# Altium footprint library PcbLib1.PcbLib: 25 footprints (part 2 of 2)
Each footprint in its own frame and in the unit in brackets; x right, y up, seen from the top. Pads: shape width x height; smd on the part's side, far side on the other; paste and mask are expansions set on the pad; w line width, h text height; cw(c..) or ccw(c..) is an arc to the next point about the centre after c.
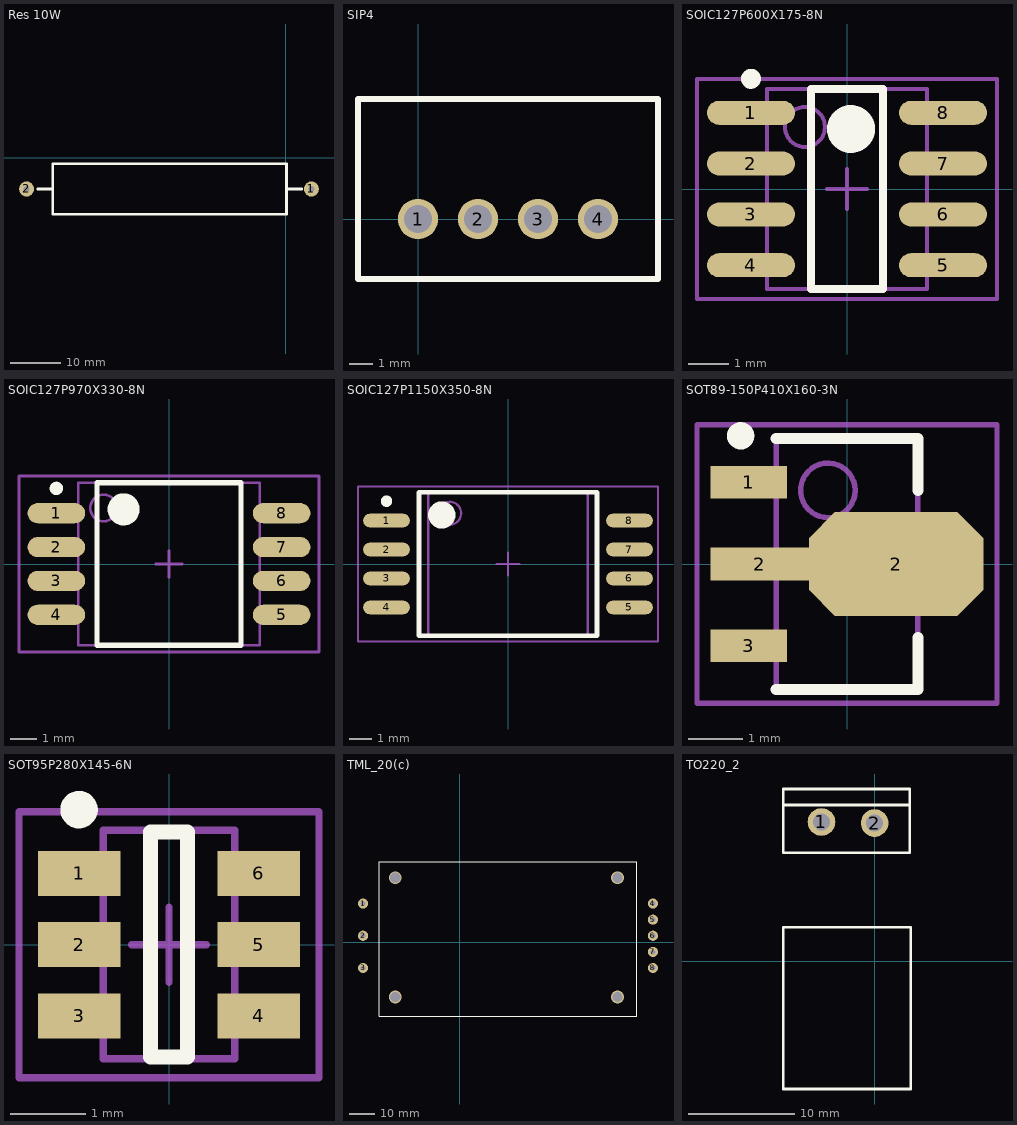
[diagram p1: the footprints below, top view; thin cyan lines are the x and y axes]

## Res 10W [mm]
pads (2):
  round 3 hole 1.2: 1(5.073,-6.15) 2(-51,-6.15)
Top Overlay:
  lines w0.5: -48.827,-6.15 -46.103,-6.15 ; 0.174,-6.15 3.173,-6.15 ; -45.827,-11.15 -45.827,-1.15 0.173,-1.15 0.173,-11.15 -45.827,-11.15

## SIP4 [mm]
height 10
pads (4):
  round 1.7 hole 1.2: 1(0,0) 2(2.54,0) 3(5.08,0) 4(7.62,0)
Top Overlay:
  lines w0.254: -2.54,-2.54 10.16,-2.54 10.16,5.08 -2.54,5.08 -2.54,-2.54

## SOIC127P600X175-8N [mm] "SOIC, 8-Leads, Body 5.0x4.0mm (max), Pitch 1.27mm, IPC Medium Density"
height 1.75
pads (8):
  oval 2.2x0.6 smd: 1(-2.4,1.905) 2(-2.4,0.635) 3(-2.4,-0.635) 4(-2.4,-1.905) 5(2.4,-1.905) 6(2.4,-0.635) 7(2.4,0.635) 8(2.4,1.905)
Top Overlay:
  circle w0.25: c-2.4,2.755 r0.125
  circle w0.6: c0.1,1.5 r0.3
  lines w0.2: -0.9,-2.5 -0.9,2.5 0.9,2.5 0.9,-2.5 -0.9,-2.5
Mechanical 13:
  circle w0.1: c-1.05,1.55 r0.5
  lines w0.1: -2,-2.5 -2,2.5 2,2.5 2,-2.5 -2,-2.5
Mechanical 15:
  lines w0.1: -0.5,0 0.5,0 ; 0,-0.5 0,0.5 ; -3.75,-2.75 -3.75,2.75 3.75,2.75 3.75,-2.75 -3.75,-2.75
3D body: height 1.75, standoff 0.1, extent -2,-2.5 2,2.5

## SOIC127P970X330-8N [mm] "SOIC, 8-Leads, Body 6.1x6.8mm (max), Pitch 1.27mm, IPC Medium Density"
height 3.3
pads (8):
  oval 2.16x0.76 smd: 1(-4.225,1.905) 2(-4.225,0.635) 3(-4.225,-0.635) 4(-4.225,-1.905) 5(4.225,-1.905) 6(4.225,-0.635) 7(4.225,0.635) 8(4.225,1.905)
Top Overlay:
  circle w0.6: c-1.7,2.05 r0.3
  circle w0.25: c-4.225,2.835 r0.125
  lines w0.2: -2.7,-3.05 2.7,-3.05 2.7,3.05 -2.7,3.05 -2.7,-3.05
Mechanical 13:
  circle w0.1: c-2.45,2.1 r0.5
  lines w0.1: -3.4,-3.05 3.4,-3.05 3.4,3.05 -3.4,3.05 -3.4,-3.05
Mechanical 15:
  lines w0.1: -0.5,0 0.5,0 ; 0,-0.5 0,0.5 ; -5.625,-3.3 5.625,-3.3 5.625,3.3 -5.625,3.3 -5.625,-3.3
3D body: height 3.3, standoff 0.3, extent -3.4,-3.05 3.4,3.05

## SOIC127P1150X350-8N [mm] "SOIC, 8-Leads, Body 6.3x7.0mm (max), Pitch 1.27mm, IPC Medium Density"
height 3.5
pads (8):
  oval 2.05x0.6 smd: 1(-5.325,1.905) 2(-5.325,0.635) 3(-5.325,-0.635) 4(-5.325,-1.905) 5(5.325,-1.905) 6(5.325,-0.635) 7(5.325,0.635) 8(5.325,1.905)
Top Overlay:
  circle w0.25: c-5.325,2.755 r0.125
  circle w0.6: c-2.9,2.15 r0.3
  lines w0.2: -3.9,-3.15 -3.9,3.15 3.9,3.15 3.9,-3.15 -3.9,-3.15
Mechanical 13:
  circle w0.1: c-2.55,2.225 r0.5
  lines w0.1: -3.5,-3.175 -3.5,3.175 3.5,3.175 3.5,-3.175 -3.5,-3.175
Mechanical 15:
  lines w0.1: -0.5,0 0.5,0 ; 0,-0.5 0,0.5 ; -6.575,-3.4 -6.575,3.4 6.575,3.4 6.575,-3.4 -6.575,-3.4
3D body: height 3.5, standoff 0.1, extent -3.5,-3.175 3.5,3.175

## SOT89-150P410X160-3N [mm] "SOT89, 3-Leads, Body 4.5x2.4mm (max), Pitch 1.50mm, Lead Span 4.1mm, IPC Medium Density"
height 1.6
pads (4):
  rect 1.4x0.6 smd: 1(-1.8,1.5) 3(-1.8,-1.5)
  rect 1.8x0.6 smd: 2(-1.6,0)
  oct 3.2x1.9 smd: 2(0.9,0)
Top Overlay:
  circle w0.25: c-1.95,2.35 r0.125
  lines w0.2: -1.3,-2.3 1.3,-2.3 1.3,-1.35 ; -1.3,2.3 1.3,2.3 1.3,1.35
Mechanical 13:
  circle w0.1: c-0.35,1.35 r0.5
  lines w0.1: -1.3,-2.3 1.3,-2.3 1.3,2.3 -1.3,2.3 -1.3,-2.3
Mechanical 15:
  lines w0.1: -0.5,0 0.5,0 ; 0,-0.5 0,0.5 ; -2.75,-2.55 2.75,-2.55 2.75,2.55 -2.75,2.55 -2.75,-2.55
3D body: height 1.6, standoff 0, extent -1.3,-2.3 1.3,2.3

## SOT95P280X145-6N [mm] "SOT23, 6-Leads, Body 3.0x3.0mm (max), Pitch 0.95mm, IPC Medium Density"
height 1.45
pads (6):
  rect 1.1x0.6 smd: 1(-1.2,0.95) 2(-1.2,0) 3(-1.2,-0.95) 4(1.2,-0.95) 5(1.2,0) 6(1.2,0.95)
Top Overlay:
  circle w0.25: c-1.2,1.8 r0.125
  lines w0.2: -0.25,-1.5 0.25,-1.5 0.25,1.5 -0.25,1.5 -0.25,-1.5
Mechanical 13:
  lines w0.1: -0.875,-1.525 -0.875,1.525 0.875,1.525 0.875,-1.525 -0.875,-1.525
Mechanical 15:
  lines w0.1: -0.5,0 0.5,0 ; 0,-0.5 0,0.5 ; -2,-1.775 -2,1.775 2,1.775 2,-1.775 -2,-1.775
3D body: height 1.45, standoff 0.05, extent -0.875,-1.525 0.875,1.525

## TML_20(c) [mm]
pads (8):
  round 4 hole 2: 1(-38.1,15.24) 2(-38.1,2.54) 3(-38.1,-10.16) 4(76.2,15.24) 5(76.2,8.89) 6(76.2,2.54) 7(76.2,-3.81) 8(76.2,-10.16)
via -25.4,25.4 diameter 5 hole 4
via 62.23,25.4 diameter 5 hole 4
via 62.23,-21.59 diameter 5 hole 4
via -25.4,-21.59 diameter 5 hole 4
Top Overlay:
  lines w0.254: -31.75,-29.21 69.85,-29.21 69.85,31.75 -31.75,31.75 -31.75,-29.21

## TO220_2 [mm]
pads (2):
  round 2.6 hole 1.6: 1(-5,13.1) 2(0,13)
Top Overlay:
  lines w0.254: -8.6,14.7 3.3,14.7 ; -8.6,-12 -8.6,3.2 3.4,3.2 3.4,-12 -8.6,-12 ; -8.6,10.2 3.3,10.2 3.3,16.2 -8.6,16.2 -8.6,10.2